# Altium footprint library WE-PMI_0805_H0.5.PcbLib: 1 footprints
Each footprint in its own frame and in the unit in brackets; x right, y up, seen from the top. Pads: shape width x height; smd on the part's side, far side on the other; paste and mask are expansions set on the pad; w line width, h text height; cw(c..) or ccw(c..) is an arc to the next point about the centre after c.
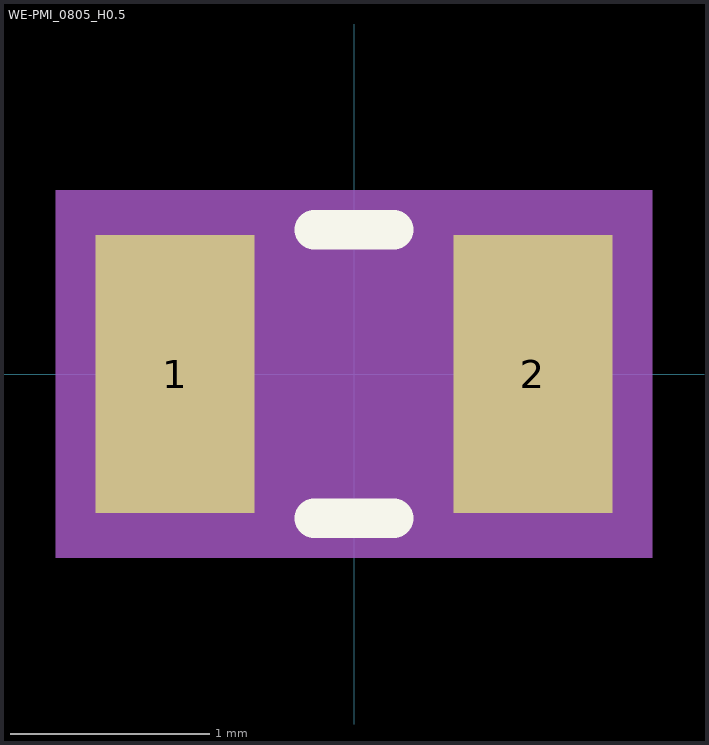
[diagram p0: the footprint, top view; thin cyan lines are the x and y axes]

## WE-PMI_0805_H0.5 [mm]
pads (2):
  rect 0.8x1.4 smd: 1(-0.9,0) 2(0.9,0)
Top Overlay:
  lines w0.2: -0.2,-0.725 0.2,-0.725 ; -0.2,0.725 0.2,0.725
Assembly Top:
  lines w0.1: -1,-0.625 1,-0.625 1,0.625 -1,0.625 -1,-0.625
Courtyard Top:
  region: 1.5,-0.925 -1.5,-0.925 -1.5,0.925 1.5,0.925